# EAGLE library part TLV (library texas)
OP Amp Low-power rail-to-rail opperational amplifier. 1.8 - 5.5V
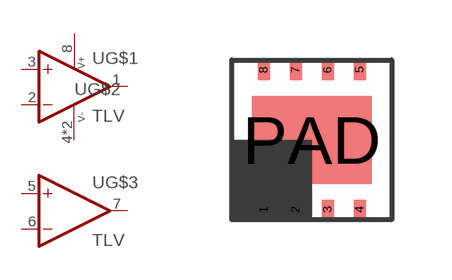
[diagram p128: symbol with the pads of S-PWSON-N8; footprint S-PWSON-N8]

Designator prefix -; gates G$1=OPAMP+-NOPWR G$3=OPAMP+-NOPWR G$2=V+V-

## TLV9002IDSGR  [S-PWSON-N8]
1  G$1:OUT  out
2  G$1:-IN  in
3  G$1:+IN  in
4  G$2:V-  pwr
5  G$3:+IN  in
6  G$3:-IN  in
7  G$3:OUT  out
8  G$2:V+  pwr
PAD  G$2:V-  pwr

## Footprint S-PWSON-N8 (pad centres in mm)
smd 0.3 x 0.5: 1 -1.2,-1.75; 2 -0.4,-1.75; 3 0.4,-1.75; 4 1.2,-1.75; 5 1.2,1.75; 6 0.4,1.75; 7 -0.4,1.75; 8 -1.2,1.75
smd 3 x 2.2: PAD 0,0